# EAGLE library part 2X5 (library barthess)
Standard 2x5 header.
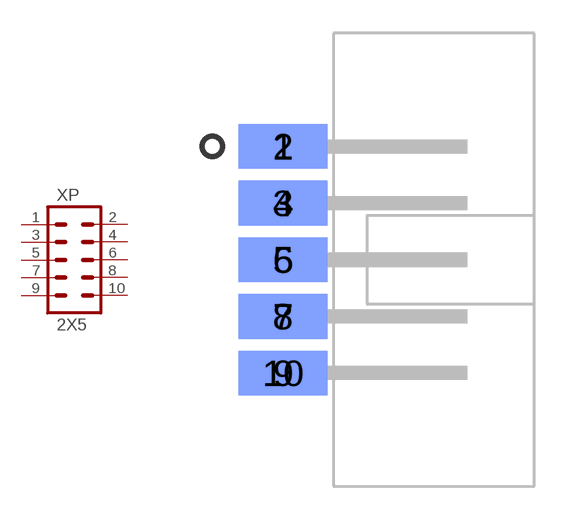
[diagram p7: symbol with the pads of PLD_2X05_PSEUDOSMD; footprint PLD_2X05_PSEUDOSMD]

Designator prefix XP

## 2X5  [PLD_2X05_PSEUDOSMD]
1  1  pas
2  2  pas
3  3  pas
4  4  pas
5  5  pas
6  6  pas
7  7  pas
8  8  pas
9  9  pas
10  10  pas

## Footprint PLD_2X05_PSEUDOSMD (pad centres in mm)
smd 4 x 2: 1 0,5.08; 3 0,2.54; 5 0,0; 7 0,-2.54; 9 0,-5.08
smd 4 x 2 bottom: 2 0,5.08; 4 0,2.54; 6 0,0; 8 0,-2.54; 10 0,-5.08